# Altium schematic symbol library S8050-SOT23.SchLib: 1 symbol
Pins are listed as number, name and electrical type; pins without a type are passive.

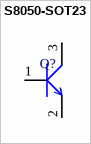
[diagram p0: symbol S8050-SOT23]

## S8050-SOT23
designator Q?
S8050 J3Y Transistor NPN 25V 0.5A 3 Pins SOT-23
footprint SOT95P240X115-3N (SOT23, 3-Leads, Body 2.90x2.40mm, Pitch 0.95mm, IPC Medium Density)
pins: 1, 2 75, 3 77